# EAGLE library part LSM6DSOXTR-IMU (library custom)
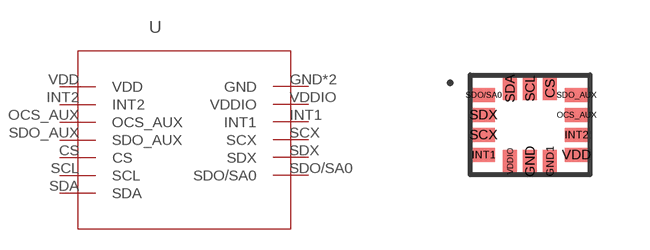
[diagram p0: symbol with the pads of IMU_LSM6DSO; footprint IMU_LSM6DSO]

Designator prefix U

## LSM6DSOXTR-IMULSM6DSO-IMU (CREATOR: ROHAN SACHDEVA; DIST: Digikey; DISTPN: 497-18367-1-ND)  [IMU_LSM6DSO]
CS  CS
GND  GND
GND1  GND
INT1  INT1
INT2  INT2
OCS_AUX  OCS_AUX
SCL  SCL
SCX  SCX
SDA  SDA
SDO/SA0  SDO/SA0
SDO_AUX  SDO_AUX
SDX  SDX
VDD  VDD
VDDIO  VDDIO

## Footprint IMU_LSM6DSO (pad centres in mm)
smd 0.35 x 0.575: CS 0.5,0.912; GND 0,-0.912; GND1 0.5,-0.912; SCL 0,0.912; SDA -0.5,0.912; VDDIO -0.5,-0.912
smd 0.575 x 0.35: INT1 -1.163,-0.75; INT2 1.163,-0.25; OCS_AUX 1.163,0.25; SCX -1.163,-0.25; SDO/SA0 -1.163,0.75; SDO_AUX 1.163,0.75; SDX -1.163,0.25; VDD 1.163,-0.75